# Altium integrated library Power_Connectors.IntLib: 1 symbol
Pins are listed as number, name and electrical type; pins without a type are passive.

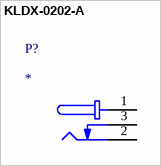
[diagram p0: symbol KLDX-0202-A]

## KLDX-0202-A
designator P?
Conn Power PIN 2 POS Solder RA Thru-Hole 3 Terminal 1 Port; Manufacturer 1: Kycon; Manufacturer Part Number 1: KLDX-0202-A; Category 1: Connectors; Current Rating: 3.5A; Voltage Rating: 24V; Number of Contacts: 2; Gender: Female; Insulation Resistance: 100MR; Supplier 1: Digi-Key; Supplier Part Number 1: 2092-KLDX-0202-A-ND; RoHS 1: Yes; Description 1: Conn Power PIN 2 POS Solder RA Thru-Hole 3 Terminal 1 Port; Stock 1: 49499; Pricing 1: 1=0.74000, 10=0.62400, 25=0.59800, 50=0.58540, 100=0.55990, 250=0.50904, 500=0.45814, 1000=0.40723, 2500=0.36906 (USD); Mount: Through Hole; Contact Plating: Tin; Color: Black; Contact Material: Brass; Housing Material: PBT; Min Operating Temperature: -25°C; Max Operating Temperature: 85°C; Package Quantity: 500; Packaging: Bag; Termination: Solder; Orientation: Right Angle; Contact Gender: Female; Connector Type: Power; Voltage Rating (DC): 24V; Series: KLDX; Radiation Hardening: No; Flammability Rating: UL94 V-0; RoHS Compliant: Yes; ComponentLink1URL: http://www.mouser.com/ds/2/222/KLDX_0202_LT-334784.pdf?src-supplier=Mouser; ComponentLink1Description: http://www.mouser.com/ds/2/222/KLDX_0202_LT-334784.pdf?src-supplier=Mouser; ComponentLink2URL: http://domino2.kycon.com/catalog_PDF/KLDX_0202.pdf?src-supplier=Avnet; ComponentLink2Description: http://domino2.kycon.com/catalog_PDF/KLDX_0202.pdf?src-supplier=Avnet; Supplier 2: Mouser; Supplier Part Number 2: 806-KLDX-0202-A; Manufacturer 2: Kycon; Manufacturer Part Number 2: KLDX-0202-A; RoHS 2: Yes; Description 2: Conn Power PIN 2 POS Solder RA Thru-Hole 3 Terminal 1 Port; Category 2: Connectors; Stock 2: 40865; Pricing 2: 1=0.68000, 10=0.51400, 50=0.51400, 100=0.45000, 500=0.42800, 1000=0.35300, 2500=0.31000, 10000=0.28400, 25000=0.27800, 50000=0.26700 (USD)
footprint KLDX-0202-A
pins: 1 Centre, 2 Outer, 3 SW